# EAGLE library part 16-09651 (library dec-con)
DIP-16 Quad Pulse Transformer
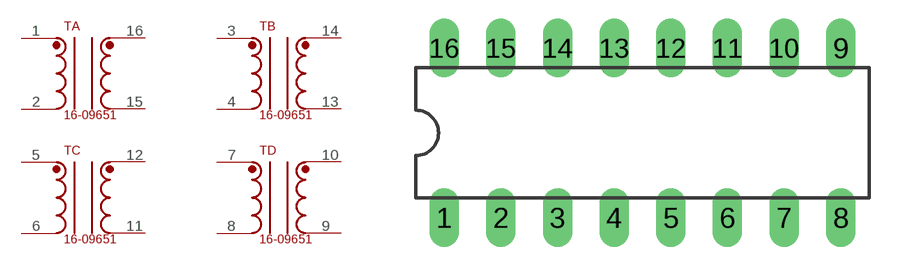
[diagram p111: symbol with the pads of DIL16; footprint DIL16]

Designator prefix T; gates A=TRANSFORMER B=TRANSFORMER C=TRANSFORMER D=TRANSFORMER

## 16-09651  [DIL16]
1  A:P$2  pas
2  A:P$7  pas
3  B:P$2  pas
4  B:P$7  pas
5  C:P$2  pas
6  C:P$7  pas
7  D:P$2  pas
8  D:P$7  pas
9  D:P$5  pas
10  D:P$4  pas
11  C:P$5  pas
12  C:P$4  pas
13  B:P$5  pas
14  B:P$4  pas
15  A:P$5  pas
16  A:P$4  pas

## Footprint DIL16 (pad centres in mm)
Dual In Line Package
drill 0.813 long: 1 -8.89,-3.81; 2 -6.35,-3.81; 3 -3.81,-3.81; 4 -1.27,-3.81; 5 1.27,-3.81; 6 3.81,-3.81; 7 6.35,-3.81; 8 8.89,-3.81; 9 8.89,3.81; 10 6.35,3.81; 11 3.81,3.81; 12 1.27,3.81; 13 -1.27,3.81; 14 -3.81,3.81; 15 -6.35,3.81; 16 -8.89,3.81